# Altium footprint library jumper.PcbLib: 2 footprints
Each footprint in its own frame and in the unit in brackets; x right, y up, seen from the top. Pads: shape width x height; smd on the part's side, far side on the other; paste and mask are expansions set on the pad; w line width, h text height; cw(c..) or ccw(c..) is an arc to the next point about the centre after c.
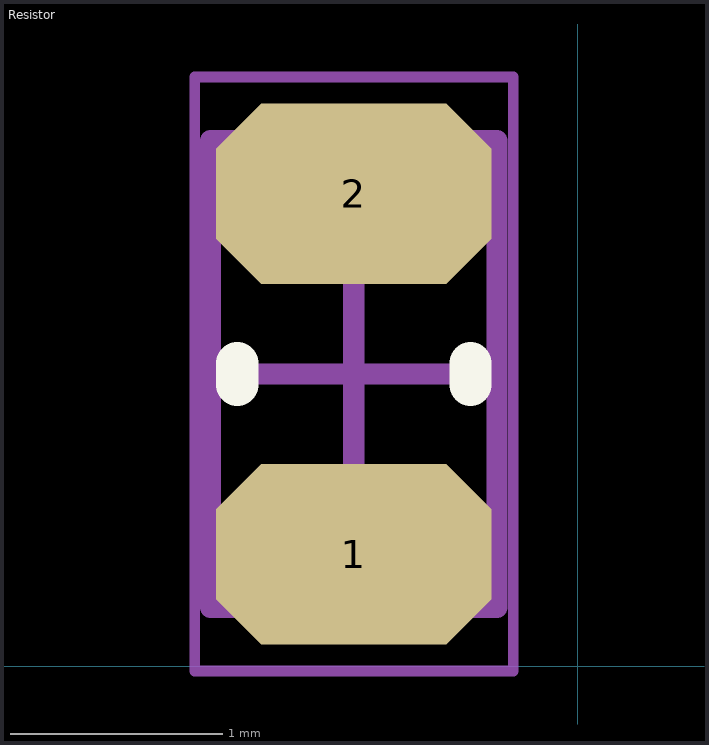
[diagram p0: the footprints below, top view; thin cyan lines are the x and y axes]

## PCBComponent_1 [mm]

## Resistor [mm]
pads (2):
  oct 1.3x0.85 smd: 1(-1.056,0.528) 2(-1.056,2.228)
Top Overlay:
  lines w0.2: -1.606,1.328 -1.606,1.428 ; -0.506,1.328 -0.506,1.428
Mechanical 13:
  lines w0.1: -1.731,0.278 -0.381,0.278 -0.381,2.478 -1.731,2.478 -1.731,0.278
Mechanical 15:
  lines w0.05: -1.806,-0.022 -0.305,-0.022 -0.305,2.778 -1.806,2.778 -1.806,-0.022
  lines w0.1: -1.556,1.378 -0.556,1.378 ; -1.056,0.878 -1.056,1.878
3D body: height 0.7, standoff 0, extent -1.732,0.278 -0.382,0.698
3D body: height 0.7, standoff 0, extent -1.732,0.698 -0.382,2.058
3D body: height 0.7, standoff 0, extent -1.732,2.058 -0.382,2.478